# Altium schematic symbol library Schlib1.SchLib: 41 symbols
Pins are listed as number, name and electrical type; pins without a type are passive.

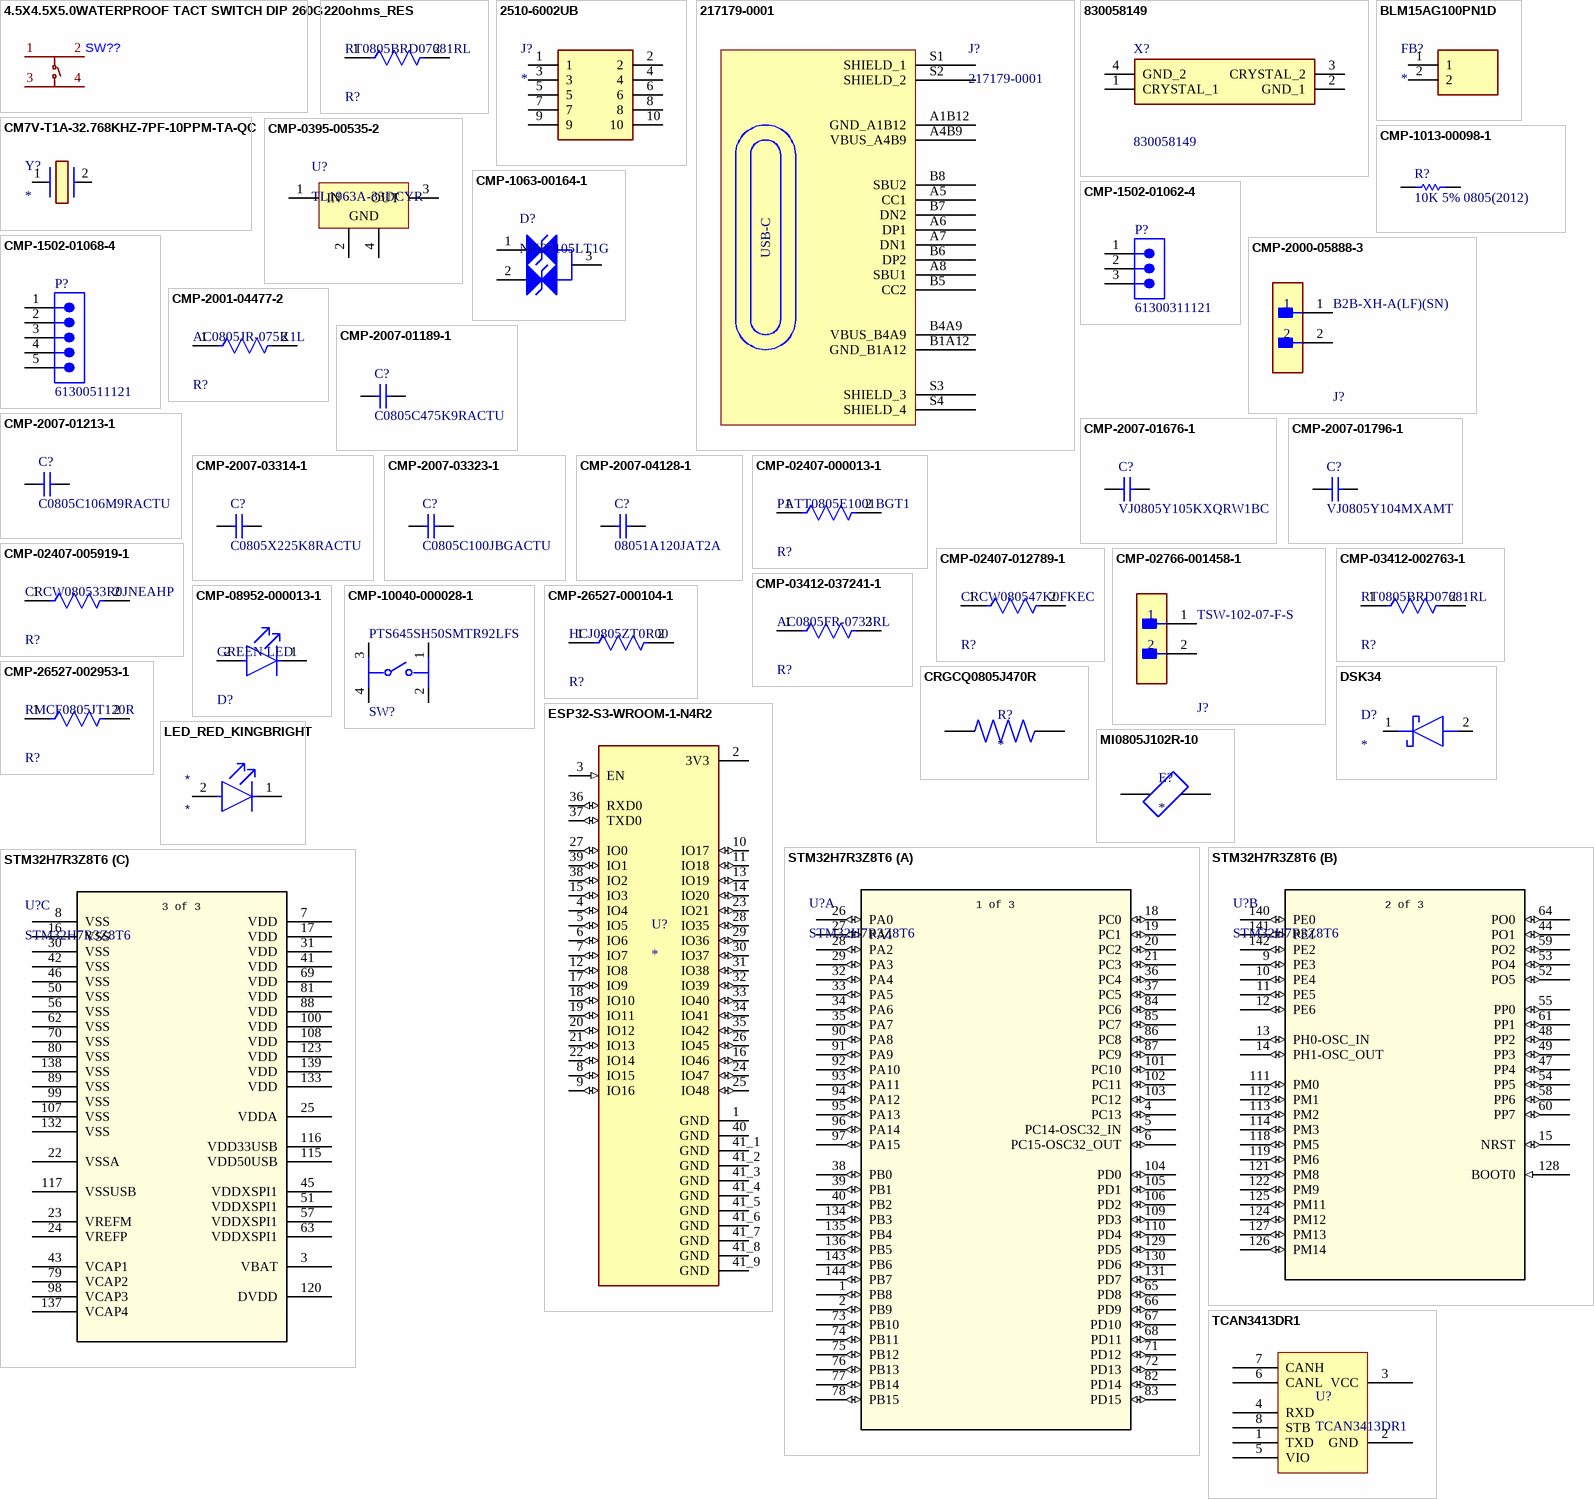
[diagram p0: symbols 4.5X4.5X5.0WATERPROOF TACT SWITCH DIP 260G to TCAN3413DR1]

## 4.5X4.5X5.0WATERPROOF TACT SWITCH DIP 260G
designator SW??
SMD Switch; LCSC Part Number: C39832249
footprint SW-TH_4P-L4.5-W4.5-P3.00-LS5.5 - duplicate
pins: 1 A, 2 B, 3 C, 4 D

## 220ohms_RES
designator R?, comment RT0805BRD07681RL
220Ω ±1% 125mW 0805 Thick Film Resistor; Manufacturer: Yageo; Temperature Coefficient: 25 ppm/°C; Power Rating: 0.125W; Voltage Rating: 150V; Tolerance: 0.0025; Value: 220Ω; ComponentLink2URL: http://www.yageo.com/documents/recent/PYu-RT_1-to-0.01_RoHS_L_9.pdf; Ipc Land Pattern Name: RESC200125X50; Footprint Url: http://www.yageo.com/exep/pages/download/literatures/PYu-R_Mount_10.pdf; Temperature: -55°C to +155°C; Resistance: 220Ω; Mouser Description: Thin Film Resistors - SMD 1/8W 681 ohm .1% 25ppm; Manufacturer Part Number: RT0805BRD07681RL; Temperature Range High: +155°C; Device Class L3: Chip SMD Resistors; Automotive: No; Octopart: https://octopart.com/rt0805brd07681rl-yageo-1270194; Device Class L1: Passive Components; Package: RT0805; Device Class L2: Resistors; Category: Res; RoHS: TRUE; Composition: Thin Film; ComponentLink2Description: Datasheet; Temperature Range Low: -55°C; Lead Free: Yes; Digikey Description: RES SMD 681 OHM 0.1% 1/8W 0805; Height: 0.6mm; Series: RT; LCSC Part Number: C17557
footprint FP-RT0805-IPC_B (Footprint not found)
pins: 1, 2

## 2510-6002UB
designator J?
10 Pin Connector; Manufacturer_Name: 3M; Manufacturer_Part_Number: 2510-6002UB; Datasheet Link: http://multimedia.3m.com/mws/media/330367O/3m-four-wall-header-2500-series-ts-0770.pdf; Height: 9.91mm; Mouser Part Number: 517-2510-6002; Mouser Price/Stock: https://www.mouser.co.uk/ProductDetail/3M-Electronic-Solutions-Division/2510-6002UB?qs=QGTbWukjY6o4fZyiqKm1IQ%3D%3D
footprint SHDR10W64P254_2X5_2002X859X991P
pins: 1, 2, 3, 4, 5, 6, 7, 8, 9, 10

## 217179-0001
designator J?
CONN RCP USB2.0 TYP C 24P SMD RA; Manufacturer: Molex; Supplier: Digikey; Supplier Part Number: 900-2171790001CT-ND; Manufacturer Part Number: 217179-0001; RoHS: No; Category: Connectors; Stock: 7228; Pricing: 1=0.9, 10=0.745, 100=0.6212 (USD); LCSC Part Number: C3197684
footprint FP-2171790001-MFG
pins: A1B12 GND_A1B12, A4B9 VBUS_A4B9, A5 CC1, A6 DP1, A7 DN1, A8 SBU1, B1A12 GND_B1A12, B4A9 VBUS_B4A9, B5 CC2, B6 DP2, B7 DN2, B8 SBU2, S1 SHIELD_1, S2 SHIELD_2, S3 SHIELD_3, S4 SHIELD_4
text: USB-C

## 830058149
designator X?
WE-XTAL Quartz Crystal CFPX-180; 3.2 x 2.5mm; 24.0 MHz; Tol = +/-10 ppm; Stab = +/-10 ppm Temp Range: -20 to 70 C; Load Cap = 10 pF;; Manufacturer_Name: Wurth Elektronik; Geometry.Height: 0.8mm; Manufacturer_Part_Number: 830058149; Mouser Part Number: 710-830058149; Mouser Price/Stock: https://www.mouser.co.uk/ProductDetail/Wurth-Elektronik/830058149?qs=2WXlatMagcGvGOKbd6jfgQ%3D%3D; Arrow Part Number: *; Arrow Price/Stock: *; Datasheet Link: https://www.we-online.com/catalog/datasheet/830058149.pdf
footprint 830058149-x1
pins: 1 CRYSTAL_1, 2 GND_1, 3 CRYSTAL_2, 4 GND_2

## BLM15AG100PN1D
designator FB?
Ferrite Bead; Manufacturer_Name: Murata Electronics; Manufacturer_Part_Number: BLM15AG100PN1D; Datasheet Link: http://www.murata.com/~/media/webrenewal/support/library/catalog/products/emc/emifil/c31e.ashx?la=en-gb; Height: 0.55mm; Mouser Part Number: 81-BLM15AG100PN1D; Mouser Price/Stock: https://www.mouser.co.uk/ProductDetail/Murata-Electronics/BLM15AG100PN1D?qs=pjaQvu26Swy5wAtJVZEYDQ%3D%3D; LCSC_Part Number: C369542
footprint NFZ15SG152SN10B
pins: 1, 2

## CM7V-T1A-32.768KHZ-7PF-10PPM-TA-QC
designator Y?
Crystal or Oscillator; Manufacturer_Name: Micro Crystal AG; Manufacturer_Part_Number: CM7V-T1A-32.768KHZ-7PF-10PPM-TA-QC; Datasheet Link: https://www.microcrystal.com/fileadmin/Media/Products/32kHz/Datasheet/CM7V-T1A.pdf; Height: 0.65mm; Mouser Part Number: 428-201563-MG01; Mouser Price/Stock: https://www.mouser.co.uk/ProductDetail/Micro-Crystal/CM7V-T1A-32.768kHz-7pF-10PPM-TA-QC?qs=7bTaA%2FLYtSYKx%2FblBI5vsQ%3D%3D; Arrow Part Number: CM7V-T1A-32.768KHZ-7PF-10PPM-TA-QC; Arrow Price/Stock: https://www.arrow.com/en/products/cm7v-t1a-32.768khz-7pf-10ppm-ta-qc/micro-crystal-ag?region=nac
footprint CM7V32768TBQA020
pins: 1, 2

## CMP-0395-00535-2
designator U?, comment TL1963A-33DCYR
Single Output Low Noise LDO, 1.5 A, Fixed 3.3 V Output, 2.1 to 20 V Input, 4-pin SOT-223 (DCY), -40 to 125 degC, Green (RoHS & no Sb/Br); Manufacturer: Texas Instruments; Vout Adj(Min)(V): 3.3; Vin(Max)(V): 20; SubFamily: Single Channel LDO; Iq(Typ)(mA): 1; Iout(Max)(A): 1.5; Vin(Min)(V): 2.1; Vdo(Typ)(mV): 340; Accuracy(%): 3; ComponentLink2Description: Datasheet; PackageVersion: 4202506/B; PackageReference: DCY0004A; ComponentLink1Description: Manufacturer URL; Eco-Plan: Green (RoHS & no Sb/Br); ComponentLink1URL: http://www.ti.com/; Fixed Output Options(V): 3.3; ComponentLink2URL: http://www.ti.com/general/docs/lit/getliterature.tsp?genericPartNumber=TL1963A-33&fileType=pdf; Vout Adj(Max)(V): 3.3; PackageDescription: 4-Pin Plastic Small Outline, Body 3.5 x 6.5 mm, Pitch 2.3 mm; ComponentLink3URL: http://www.ti.com/litv/pdf/mpds094a; DatasheetVersion: SLVS719F; PartNumber: TL1963A-33DCYR; Code_JEDEC: TO-261; Mounting Technology: Surface Mount; ComponentLink3Description: Package Specification; LCSC Part Number: C181262
footprint DCY0004A_L (SOT223, 4-Leads, Body 6.7x3.7mm, Pitch 2.3mm, IPC High Density)
pins: 1 IN (power) "Input. Power is supplied to the device through the IN pin. A bypass capacitor is required on this pin if the device is more than six inches away from the main input filter capacitor. In general, the output impedance of a (See Datasheet)", 2 GND (power) "Ground", 3 OUT (power) "Output. The output supplies power to the load. A minimum output capacitor (ceramic) of 10 uF is required to prevent oscillations. Larger output capacitors are required for applications with large transient loads to limit (See Datasheet)", 4 GND (power) "Ground"

## CMP-1013-00098-1
designator R?, comment 10K 5% 0805(2012)
10K 0.5W 5% 0805 (2012 Metric)  SMD; Case-EIA: 0805; Case-Metric: 2012; Value: 10000.00 Ohm; Power: 0.5W; Technology: SMT; Tolerance: 5 %; LCSC Part Number: C873759
footprint RESC0805(2012)_M (Chip Resistor, Body 2.0x1.3mm, IPC Low Density)
pins: 1, 2
1 alternate drawing of the same symbol

## CMP-1063-00164-1
designator D?, comment NUP2105LT1G
Dual Line CAN Bus Protector, 3-Pin SOT-23, Pb-Free, Tape and Reel; Manufacturer: On Semiconductor; IR Max (uA): 0.1; Number of Lines: 2; Direction: Bidirectional; C Max (pF): 30; PPK Max (W): 350; V(BR) Min (V): 26.2; ComponentLink3URL: http://www.onsemi.cn/pub_link/Collateral/318-08.PDF; Mounting Technology: Surface Mount; ComponentLink2Description: Datasheet; PartNumber: NUP2105LT1G; ComponentLink1URL: http://www.onsemi.com/; PackageVersion: Rev. AP, 11/2009; DatasheetVersion: Rev. 5; RoHS: Pb-Free; PackageReference: SOT-23-3-318-08; ComponentLink2URL: http://www.onsemi.cn/pub_link/Collateral/NUP2105L-D.PDF; ComponentLink1Description: Manufacturer URL; PackageDescription: 3-Pin Small Outline Transistor, Body 2.92 x 1.3 mm, Pitch 0.95 mm; Packing: Tape and Reel; ComponentLink3Description: Package Specification; LCSC Part Number: C19829391
footprint ONSC-SOT-23-3-318-08_V (SOT23, 3-Leads, Body 2.92x1.3mm, Pitch 0.95mm)
pins: 1 K, 2 K, 3 K

## CMP-1502-01062-4
designator P?, comment 61300311121
THT Vertical Pin Header WR-PHD, Pitch 2.54 mm, Single Row, 3 pins; Connector Type: Male Pin; Number of Contacts: 3; Operating Supply Voltage: 250V; Current Rating: 3A; Pitch: 2.54mm; Contact Resistance: 20mΩ; Gender: Male; Height: 8.94mm; Color: Black; Min Operating Temperature: -40°C; Max Operating Temperature: 105°C; Mount: Through Hole; Termination: Solder; Number of Rows: 1; Packaging: Bulk; Number of Pins: 3; Lead Pitch: 2.54mm; RoHS: Compliant; Contact Plating: Gold; Number of Positions: 3; Lead Free: Lead Free; Voltage Rating: 250V; Contact Mating Length: 5.9944mm; Orientation: Vertical; Contact Material: Gold; LCSC Part Number: C2937625
footprint 61300311121 (Pin Header, pitch 2.54 mm, THT, Vertical, single row, 3p)
pins: 1, 2, 3

## CMP-1502-01068-4
designator P?, comment 61300511121
THT Vertical Pin Header WR-PHD, Pitch 2.54 mm, Single Row, 5 pins; Number of Contacts: 5; Connector Type: Male Pin; Operating Supply Voltage: 250V; Contact Resistance: 20mΩ; Gender: Male; Pitch: 2.54mm; Current Rating: 3A; Min Operating Temperature: -40°C; Contact Material: Gold; Color: Black; RoHS: Compliant; Number of Rows: 1; Lead Free: Lead Free; Height: 8.89mm; Contact Plating: Gold; Number of Pins: 5; Orientation: Vertical; Voltage Rating: 250V; Packaging: Bulk; Number of Positions: 5; Max Operating Temperature: 105°C; Termination: Solder; Lead Pitch: 2.54mm; Contact Mating Length: 5.9944mm; Mount: Through Hole; LCSC Part Number: C42431835
footprint 61300511121 (Pin Header, pitch 2.54 mm, THT, Vertical, single row, 5p)
pins: 1, 2, 3, 4, 5

## CMP-2000-05888-3
designator J?, comment B2B-XH-A(LF)(SN)
CONN HEADER VERT 2POS 2.5MM; Current Rating: 3A; Voltage Rating: 250V; Number of Contacts: 2; Contact Resistance: 20mR; Wire/Cable Gauge: 22AWG; Insulation Resistance: 1GR; Connector Type: Male Pin; Packaging: Bulk; Contact Material: Brass; Lead Free: Lead Free; Orientation: Straight; Contact Plating: Tin; Max Current Rating: 3A; Termination: Solder; Fastening Type: Detent; Depth: 5.75mm; Housing Material: Polyamide; REACH SVHC: No SVHC; Series: XH; Voltage Rating (AC): 250V; Number of Positions: 2; Color: Natural; Contact Type: Male Pin; Max Voltage Rating (DC): 250V; Pitch: 2.5mm; Lead Pitch: 2.5mm; Mount: Through Hole; Max Operating Temperature: 85°C; Length: 7.4mm; Max Voltage Rating (AC): 250V; Min Operating Temperature: -25°C; Number of Rows: 1; Housing Color: White; LCSC Part Number: C19271386
footprint FP-B2B-XH-A_LF_SN-MFG
pins: 1, 2

## CMP-2001-04477-2
designator R?, comment AC0805JR-075K1L
RES SMD 5.1K OHM 5% 1/2W 0805; Manufacturer: Yageo; Automotive Grade: Grade 0; Value: 5.1KΩ; Voltage Rating: 150V; Power Rating: 1/8W; Tolerance: 0.05; Category: Res; RoHS: TRUE; Automotive: Yes; Device Class L1: Passive Components; Lead Free: Yes; Octopart: https://octopart.com/ac0805jr-075k1l-yageo-21711115; Series: AC; Temperature Range High: +155°C; ComponentLink2URL: http://www.yageo.com/documents/recent/PYu-AC_51_RoHS_L_6.pdf; Temperature Range Low: -55°C; ComponentLink2Description: Datasheet; Footprint Url: http://www.yageo.com/exep/pages/download/literatures/PYu-R_Mount_10.pdf; Mouser Description: Thick Film Resistors - SMD 5.1K ohm 5% 1/8W; Device Class L3: Chip SMD Resistors; Digikey Description: RES SMD 5.1K OHM 5% 1/8W 0805; Package: AC0805; Temperature: -55°C to +155°C; Device Class L2: Resistors; Resistance: 5.1KΩ; Height: 0.6mm; Manufacturer Part Number: AC0805JR-075K1L; Ipc Land Pattern Name: RESC200125X50; Composition: Thick Film; LCSC Part Number: C543469
footprint FP-AC0805-IPC_B
pins: 1, 2

## CMP-2007-01189-1
designator C?, comment C0805C475K9RACTU
4.7uF; Manufacturer: Kemet; Part Number: C0805C475K9RACTU; LCSC Part Number: C354262
footprint CAPC2013X145X50ML20T25 (Chip Capacitor, 2-Leads, Body 2.00x1.25mm, IPC Low Density)
pins: 1, 2
1 alternate drawing of the same symbol

## CMP-2007-01213-1
designator C?, comment C0805C106M9RACTU
10uF; Manufacturer: Kemet; Part Number: C0805C106M9RACTU; LCSC Part Number: C15850
footprint CAPC2013X145X50ML20T25 (Chip Capacitor, 2-Leads, Body 2.00x1.25mm, IPC Low Density)
pins: 1, 2
1 alternate drawing of the same symbol

## CMP-2007-01676-1
designator C?, comment VJ0805Y105KXQRW1BC
1uF; Manufacturer: Vitramon; Part Number: VJ0805Y105KXQRW1BC; LCSC Part Number: C91186
footprint CAPC2013X145X50ML20T20 (Chip Capacitor, 2-Leads, Body 2.00x1.25mm, IPC Low Density)
pins: 1, 2
1 alternate drawing of the same symbol

## CMP-2007-01796-1
designator C?, comment VJ0805Y104MXAMT
0.1uF; Manufacturer: Vitramon; Part Number: VJ0805Y104MXAMT; LCSC Part Number: C519981
footprint CAPC2013X145X48ML20T23 (Chip Capacitor, 2-Leads, Body 2.00x1.25mm, IPC Low Density)
pins: 1, 2
1 alternate drawing of the same symbol

## CMP-2007-03314-1
designator C?, comment C0805X225K8RACTU
2.2uF; Manufacturer: Kemet; Part Number: C0805X225K8RACTU; LCSC Part Number: C19110
footprint CAPC2013X140X50ML20T25 (Chip Capacitor, 2-Leads, Body 2.00x1.25mm, IPC Low Density)
pins: 1, 2
1 alternate drawing of the same symbol

## CMP-2007-03323-1
designator C?, comment C0805C100JBGACTU
10pF; Manufacturer: Kemet; Part Number: C0805C100JBGACTU; LCSC Part Number: C53084483
footprint CAPC1608X92X38NL15T08 (Chip Capacitor, 2-Leads, Body 1.60x0.80mm, IPC Medium Density)
pins: 1, 2
1 alternate drawing of the same symbol

## CMP-2007-04128-1
designator C?, comment 08051A120JAT2A
7pF; Manufacturer: AVX Interconnect / Elco; Part Number: 08051A120JAT2A; LCSC Part Number: C136031
footprint CAPC1608X92X38NL15T08 (Chip Capacitor, 2-Leads, Body 1.60x0.80mm, IPC Medium Density)
pins: 1, 2
1 alternate drawing of the same symbol

## CMP-02407-000013-1
designator R?, comment PATT0805E1001BGT1
RES SMD 1K OHM 0.1% 1/5W 0805; Manufacturer: Vishay; Automotive Grade: Grade 0; Resistance: 1kΩ; Voltage Rating: 100V; Temperature Coefficient: 25ppm/°C; Value: 1kΩ; Power Rating: 200mW; ComponentLink2Description: Datasheet; Device Class L1: Passive Components; Footprint Url: https://www.vishay.com/docs/60119/landpatterns.pdf; Lead Free: Yes; Device Class L2: Resistors; Tolerance: 0.1%; Manufacturer Part Number: PATT0805E1001BGT1; Temperature: -55°C to +250°C; Height: 0.018inch; Series: PATT; Device Class L3: Chip SMD Resistors; Temperature Range High: +250°C; RoHS: TRUE; Octopart: https://octopart.com/patt0805e1001bgt1-vishay-34963130; Category: Res; Digikey Description: RES SMD 1K OHM 0.1% 1/5W 0805; Automotive: Yes; Package: PATT0805; ComponentLink2URL: https://www.vishay.com/docs/60124/patt.pdf; Temperature Range Low: -55°C; Composition: Thin Film; Ipc Land Pattern Name: RESC203127X38; LCSC Part Number: C560481
footprint FP-PATT0805-IPC_B
pins: 1, 2

## CMP-02407-005919-1
designator R?, comment CRCW080533R0JNEAHP
RES Thick Film, 33Ω, 5%, 0.5W, 200ppm/°C, 0805; Resistance: 33R; Max Power Dissipation: 500mW; Packaging: Tape and Reel; Package Quantity: 5000; Lead Free: Lead Free; Tolerance: 5%; Temperature Coefficient: 200ppm/°C; Features: Automotive AEC-Q200; Composition: Thick Film; Case/Package: 0805; Height: 0.024inch; Number of Terminations: 2; Length: 0.079inch; Min Operating Temperature: -55°C; Width: 0.049inch; Max Operating Temperature: 155°C; LCSC Part Number: C441971
footprint FP-CRCW0805-HPe3-IPC_B
pins: 1, 2

## CMP-02407-012789-1
designator R?, comment CRCW080547K0FKEC
RES Thick Film, 47kΩ, 1%, 0.5W, 100ppm/°C, 0805; Resistance: 47kR; Max Power Dissipation: 500mW; Length: 0.079inch; Number of Terminations: 2; Features: Automotive AEC-Q200; Case/Package: 0805; Temperature Coefficient: 100ppm/°C; Height: 0.02inch; Lead Free: Lead Free; Series: CRCW; Packaging: Tape and Reel; Tolerance: 1%; Resistor Type: Thick Film; Min Operating Temperature: -55°C; Width: 0.049inch; RoHS Compliant: Yes; Max Operating Temperature: 155°C; Depth: 1.25mm; Military Standard: Not; Package Quantity: 20000; LCSC Part Number: C441957
footprint FP-CRCW0805-e3-IPC_B
pins: 1, 2

## CMP-02766-001458-1
designator J?, comment TSW-102-07-F-S
CONN HEADER VERT 2POS 2.54MM; Gender: Male; Max Current Rating: 7.6A; Number of Contacts: 2; Max Voltage Rating (AC): 550V; Orientation: Straight; Depth: 2.54mm; Series: TSW; Package Quantity: 1; Min Operating Temperature: -55°C; Max Operating Temperature: 125°C; Contact Type: Male Pin; Contact Shape: Square; Color: Black; Housing Color: Black; Connector Type: Header; Fastening Type: Pull; Radiation Hardening: No; Pitch: 2.54mm; Housing Material: Polyester; Mount: Through Hole; Number of Positions: 2; Number of Rows: 1; Contact Material: Bronze; Insulation Color: Black; Contact Finish - Mating: GOLD; Termination: Solder; Insulation Material: PBT; Length: 5.08mm; Flammability Rating: UL94 V-0; Contact Mating Length: 0.23inch; REACH SVHC: No SVHC; Contact Plating: Gold; RoHS Compliant: Yes; Packaging: Bulk; LCSC Part Number: C492401
footprint FP-TSW-102-07-F-S-MFG
pins: 1, 2

## CMP-03412-002763-1
designator R?, comment RT0805BRD07681RL
180Ω ±1% 125mW 0805 Thick Film Resistor; Manufacturer: Yageo; Temperature Coefficient: 25 ppm/°C; Power Rating: 0.125W; Voltage Rating: 150V; Tolerance: 0.0025; Value: 180Ω; ComponentLink2URL: http://www.yageo.com/documents/recent/PYu-RT_1-to-0.01_RoHS_L_9.pdf; Ipc Land Pattern Name: RESC200125X50; Footprint Url: http://www.yageo.com/exep/pages/download/literatures/PYu-R_Mount_10.pdf; Temperature: -55°C to +155°C; Resistance: 180Ω; Mouser Description: Thin Film Resistors - SMD 1/8W 681 ohm .1% 25ppm; Manufacturer Part Number: RT0805BRD07681RL; Temperature Range High: +155°C; Device Class L3: Chip SMD Resistors; Automotive: No; Octopart: https://octopart.com/rt0805brd07681rl-yageo-1270194; Device Class L1: Passive Components; Package: RT0805; Device Class L2: Resistors; Category: Res; RoHS: TRUE; Composition: Thin Film; ComponentLink2Description: Datasheet; Temperature Range Low: -55°C; Lead Free: Yes; Digikey Description: RES SMD 681 OHM 0.1% 1/8W 0805; Height: 0.6mm; Series: RT; LCSC Part Number: C2933344
footprint FP-AC0805-IPC_B
pins: 1, 2

## CMP-03412-037241-1
designator R?, comment AC0805FR-0733RL
RES SMD 33 OHM 1% 1/8W 0805; Manufacturer: Yageo; Automotive Grade: Grade 0; Value: 33Ω; Voltage Rating: 150V; Tolerance: 0.01; Octopart: https://octopart.com/ac0805fr-0733rl-yageo-46503501; Device Class L2: Resistors; Temperature: -55°C to +155°C; Composition: Thick Film; ComponentLink2URL: http://www.yageo.com/documents/recent/PYu-AC_51_RoHS_L_6.pdf; Automotive: Yes; Lead Free: Yes; Category: Res; Package: AC0805; Temperature Range Low: -55°C; Device Class L3: Chip SMD Resistors; Temperature Range High: +155°C; Mouser Description: Thick Film Resistors - SMD 1/8W 33ohm 1% AEC-Q200; Footprint Url: http://www.yageo.com/exep/pages/download/literatures/PYu-R_Mount_10.pdf; Resistance: 33Ω; Power Rating: 1/8W; RoHS: TRUE; ComponentLink2Description: Datasheet; Device Class L1: Passive Components; Height: 0.6mm; Series: AC; Digikey Description: RES SMD 33 OHM 1% 1/8W 0805; Ipc Land Pattern Name: RESC200125X50; Manufacturer Part Number: AC0805FR-0733RL; LCSC Part Number: C228754
footprint FP-AC0805-IPC_B
pins: 1, 2

## CMP-08952-000013-1
designator D?, comment GREEN LED
LED GREEN CLEAR 0805 SMD; Manufacturer Part Number: SML-210MTT86; Manufacturer: ROHM; Forward Current: 20mA; Reverse Voltage: 4V; Peak Emmision Wavelength: 573nm; Forward Voltage: 2.2V; Luminous Intensity: 16mcd; Power Dissipation: 70mW; Led Orientation: Top View; Wavelength: 570nm; Device Class L2: LEDs; Colour: Green; Height: 0.90mm; Ipc Land Pattern Name: DIOCP200125X25; Automotive: No; Temperature Range High: +85°C; Device Class L3: unset; Temperature: -30°C to +85°C; Device Class L1: Optoelectronics; Mouser Description: Standard LEDs - SMD GREEN SMD TRANS LENS; Temperature Range Low: -30°C; Package: SML-210; Digikey Description: LED GREEN CLEAR 0805 SMD; Lead Free: Yes; ComponentLink2URL: https://www.mouser.in/ds/2/348/sml-21-313092.pdf; ComponentLink2Description: Datasheet; Octopart: https://octopart.com/sml-210mtt86-rohm-550711; RoHS: TRUE; Category: Diode; LCSC Part Number: C919444
footprint FP-SML-210-MFG (LED GREEN CLEAR 2012 SMD)
pins: 1 C, 2 A

## CMP-10040-000028-1
designator SW?, comment PTS645SH50SMTR92LFS
SWITCH TACTILE SPST-NO 0.05A 12V; Operating Force: 200gf; Current Rating: 50mA; Illumination Type: Non-Illuminated; Actuator Material: Nylon; Throw Configuration: SPST; Switch Function: Off-Mom; Mechanical Life: 100000Cycles; Actuator Type: Standard; Packaging: Tape and Reel; Termination: Gull Wing; Max Operating Temperature: 60°C; Length: 6mm; REACH SVHC: No SVHC; Orientation: Straight; Max Voltage Rating (DC): 12V; Package Quantity: 1000; Max Current Rating: 50mA; Mount: Surface Mount; Contact Material: Bronze; Case/Package: SMD/SMT; Lead Free: Lead Free; Min Operating Temperature: -20°C; Contact Plating: Silver; Color: Black; Depth: 9mm; Voltage Rating (DC): 12V; LCSC Part Number: C221869
footprint FP-PTS645SH50SMTR92LFS-MFG
pins: 1, 2, 3, 4

## CMP-26527-000104-1
designator R?, comment HCJ0805ZT0R00
RES 0 OHM JUMPER 1/2W 0805; Resistance: 0mR; Radiation Hardening: No; Case Code (Imperial): 0805; Number of Terminations: 2; Lead Free: Lead Free; Max Operating Temperature: 155°C; Width: 0.049inch; Case Code (Metric): 2012; Height: 0.026inch; Mount: Surface Mount; Min Operating Temperature: -55°C; Packaging: Tape and Reel; Package Quantity: 1; Termination: Wraparound; Length: 0.079inch; RoHS Compliant: Yes; Case/Package: 0805; LCSC Part Number: C844811
footprint FP-HCJ0805-IPC_B
pins: 1, 2

## CMP-26527-002953-1
designator R?, comment RMCF0805JT120R
120Ω ±5% 0.5W 0805 Thick Film Chip Resistor AEC-Q200 compliant; Temperature Coefficient: 200ppm/°C; Resistance: 120R; Max Power Dissipation: 125mW; Resistor Type: Thick Film; Construction: Rectangular; Packaging: Tape and Reel; Height: 0.026inch; Max Operating Temperature: 155°C; RoHS Compliant: Yes; Tolerance: 5%; Case/Package: 0805; Width: 0.049inch; Radiation Hardening: No; Contact Plating: Tin; Depth: 1.25mm; Number of Terminations: 2; Military Standard: Not; Mount: Surface Mount; Case Code (Imperial): 0805; Length: 0.079inch; Series: RMCF; Case Code (Metric): 2012; Min Operating Temperature: -55°C; Lead Free: Lead Free; Features: Automotive AEC-Q200; LCSC Part Number: C844392
footprint FP-RMCF0805-IPC_B
pins: 1, 2

## CRGCQ0805J470R
designator R?
Fixed Resistor CRGCQ 0805 470R 5%; MF: TE Connectivity; MP: CRGCQ0805J470R; SnapEDA_Link: https://www.snapeda.com/parts/CRGCQ0805J470R/TE+Connectivity/view-part/?ref=snap; Package: 2012 TE Connectivity; Value: *; Check_prices: https://www.snapeda.com/parts/CRGCQ0805J470R/TE+Connectivity/view-part/?ref=eda; LCSC Part Number: C114564
footprint RESC2012X65N
pins: 1, 2

## DSK34
designator D?
Schottky Diode; Manufacturer_Name: Micro Diode; Manufacturer_Part_Number: DSK34; Datasheet Link: https://atlas.eefcdn.com/partdatasheet/700274/DSK32-THRU-DSK320-SOD-123FL.pdf; Height: 1.3mm; LCSC Part Number: C41371066
footprint SODFL3818X130N
pins: 1 K, 2 A

## ESP32-S3-WROOM-1-N4R2
designator U?
Bluetooth, WiFi 802.11b/g/n, Bluetooth v5.0 Transceiver Module 2.4GHz PCB Trace Surface Mount; MF: Espressif Systems; MP: ESP32-S3-WROOM-1-N4R2; Package: None; Purchase-URL: https://pricing.snapeda.com/search/part/ESP32-S3-WROOM-1-N4R2/?ref=eda; Price: None; Availability: In Stock; Check_prices: https://www.snapeda.com/parts/ESP32-S3-WROOM-1-N4R2/Espressif+Systems/view-part/?ref=eda; SnapEDA_Link: https://www.snapeda.com/parts/ESP32-S3-WROOM-1-N4R2/Espressif+Systems/view-part/?ref=snap; Value: *; LCSC Part Number: C2913203
footprint XCVR_ESP32-S3-WROOM-1-N4R2
pins: 1 GND (power), 2 3V3 (power), 3 EN (in), 4 IO4 (io), 5 IO5 (io), 6 IO6 (io), 7 IO7 (io), 8 IO15 (io), 9 IO16 (io), 10 IO17 (io), 11 IO18 (io), 12 IO8 (io), 13 IO19 (io), 14 IO20 (io), 15 IO3 (io), 16 IO46 (io), 17 IO9 (io), 18 IO10 (io), 19 IO11 (io), 20 IO12 (io), 21 IO13 (io), 22 IO14 (io), 23 IO21 (io), 24 IO47 (io), 25 IO48 (io), 26 IO45 (io), 27 IO0 (io), 28 IO35 (io), 29 IO36 (io), 30 IO37 (io), 31 IO38 (io), 32 IO39 (io), 33 IO40 (io), 34 IO41 (io), 35 IO42 (io), 36 RXD0 (io), 37 TXD0 (io), 38 IO2 (io), 39 IO1 (io), 40 GND (power), 41_1 GND (power), 41_2 GND (power), 41_3 GND (power), 41_4 GND (power), 41_5 GND (power), 41_6 GND (power), 41_7 GND (power), 41_8 GND (power), 41_9 GND (power)

## LED_RED_KINGBRIGHT
designator *
RED LED; Manufacturer: KINGBRIGHT; Forward Current: 20 mA; Voltage - Forward(Vf): 2.5V; LCSC Part Number: C598272
footprint LED_APHCM2012SURCK-F01
pins: 1 C, 2 A

## MI0805J102R-10
designator E?
EMI Ferrite Chip Bead, 0805, 1000MA, 1000 Ohms @100MHz, DCR Max 0.150Ohm | Laird Performance Materials MI0805J102R-10; MF: Laird-Signal Integrity Products; SnapEDA_Link: https://www.snapeda.com/parts/MI0805J102R-10/Laird-Signal+Integrity+Products/view-part/?ref=snap; Package: 0805 Laird; Value: *; MP: MI0805J102R-10; Check_prices: https://www.snapeda.com/parts/MI0805J102R-10/Laird-Signal+Integrity+Products/view-part/?ref=eda; LCSC Part Number: C85835
footprint FB_MI0805J102R-10
pins: 1, 2

## STM32H7R3Z8T6
designator U?
High-Performance Arm Cortex-M7 MCU, 600MHz, 64KB Bootflash, 620KB SRAM, with DSP, cache, USB HS PHY; Manufacturer_Name: STMicroelectronics; Copyright: Copyright (C) 2025 Ultra Librarian. All rights reserved.; Manufacturer_Part_Number: STM32H7R3Z8T6; RefDes: RefDes; Type: Type; LCSC Part Number: C26125147
footprint LQFP-144_STM-M
part A pins: 1 PB8 (io), 2 PB9 (io), 4 PC13 (io), 5 PC14-OSC32_IN (io), 6 PC15-OSC32_OUT (io), 18 PC0 (io), 19 PC1 (io), 20 PC2 (io), 21 PC3 (io), 26 PA0 (io), 27 PA1 (io), 28 PA2 (io), 29 PA3 (io), 32 PA4 (io), 33 PA5 (io), 34 PA6 (io), 35 PA7 (io), 36 PC4 (io), 37 PC5 (io), 38 PB0 (io), 39 PB1 (io), 40 PB2 (io), 65 PD8 (io), 66 PD9 (io), 67 PD10 (io), 68 PD11 (io), 71 PD12 (io), 72 PD13 (io), 73 PB10 (io), 74 PB11 (io), 75 PB12 (io), 76 PB13 (io), 77 PB14 (io), 78 PB15 (io), 82 PD14 (io), 83 PD15 (io), 84 PC6 (io), 85 PC7 (io), 86 PC8 (io), 87 PC9 (io), 90 PA8 (io), 91 PA9 (io), 92 PA10 (io), 93 PA11 (io), 94 PA12 (io), 95 PA13 (io), 96 PA14 (io), 97 PA15 (io), 101 PC10 (io), 102 PC11 (io), 103 PC12 (io), 104 PD0 (io), 105 PD1 (io), 106 PD2 (io), 109 PD3 (io), 110 PD4 (io), 129 PD5 (io), 130 PD6 (io), 131 PD7 (io), 134 PB3 (io), 135 PB4 (io), 136 PB5 (io), 143 PB6 (io), 144 PB7 (io)
part B pins: 9 PE3 (io), 10 PE4 (io), 11 PE5 (io), 12 PE6 (io), 13 PH0-OSC_IN (io), 14 PH1-OSC_OUT (io), 15 NRST (io), 44 PO1 (io), 47 PP4 (io), 48 PP2 (io), 49 PP3 (io), 52 PO5 (io), 53 PO4 (io), 54 PP5 (io), 55 PP0 (io), 58 PP6 (io), 59 PO2 (io), 60 PP7 (io), 61 PP1 (io), 64 PO0 (io), 111 PM0 (io), 112 PM1 (io), 113 PM2 (io), 114 PM3 (io), 118 PM5 (io), 119 PM6 (io), 121 PM8 (io), 122 PM9 (io), 124 PM12 (io), 125 PM11 (io), 126 PM14 (io), 127 PM13 (io), 128 BOOT0 (in), 140 PE0 (io), 141 PE1 (io), 142 PE2 (io)
part C pins: 3 VBAT (power), 7 VDD (power), 8 VSS (power), 16 VSS (power), 17 VDD (power), 22 VSSA (power), 23 VREFM (power), 24 VREFP (power), 25 VDDA (power), 30 VSS (power), 31 VDD (power), 41 VDD (power), 42 VSS (power), 43 VCAP1 (power), 45 VDDXSPI1 (power), 46 VSS (power), 50 VSS (power), 51 VDDXSPI1 (power), 56 VSS (power), 57 VDDXSPI1 (power), 62 VSS (power), 63 VDDXSPI1 (power), 69 VDD (power), 70 VSS (power), 79 VCAP2 (power), 80 VSS (power), 81 VDD (power), 88 VDD (power), 89 VSS (power), 98 VCAP3 (power), 99 VSS (power), 100 VDD (power), 107 VSS (power), 108 VDD (power), 115 VDD50USB (power), 116 VDD33USB (power), 117 VSSUSB (power), 120 DVDD (power), 123 VDD (power), 132 VSS (power), 133 VDD (power), 137 VCAP4 (power), 138 VSS (power), 139 VDD (power)
part A text: 1 of 3
part B text: 2 of 3
part C text: 3 of 3

## TCAN3413DR1
designator U?
CAN Transciever; LCSC Part Number: C22396693
footprint TCAN3413DR1
pins: 1 TXD, 2 GND, 3 VCC, 4 RXD, 5 VIO, 6 CANL, 7 CANH, 8 STB

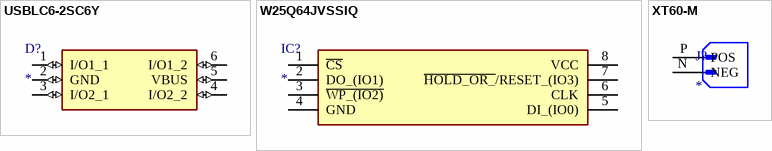
[diagram p1: symbols USBLC6-2SC6Y to XT60-M]

## USBLC6-2SC6Y
designator D?
17V Clamp 5A (8/20µs) Ipp Tvs Diode Surface Mount SOT-23-6; MF: STMicroelectronics; MP: USBLC6-2SC6Y; SnapEDA_Link: https://www.snapeda.com/parts/USBLC6-2SC6Y/STMicroelectronics/view-part/?ref=snap; Package: SOT-23-6 STMicroelectronics; Value: *; Check_prices: https://www.snapeda.com/parts/USBLC6-2SC6Y/STMicroelectronics/view-part/?ref=eda; LCSC Part Number: C7519
footprint SOT95P280X145-6N
pins: 1 I/O1_1 (io), 2 GND (io), 3 I/O2_1 (io), 4 I/O2_2 (io), 5 VBUS (io), 6 I/O1_2 (io)

## W25Q64JVSSIQ
designator IC?
Integrated Circuit; Manufacturer_Name: Winbond; Manufacturer_Part_Number: W25Q64JVSSIQ; Datasheet Link: https://www.winbond.com/hq/search-resource-file.jsp?partNo=W25Q64JVSSIQ&type=datasheet; Height: 2.16mm; Mouser Part Number: 454-W25Q64JVSSIQ; Mouser Price/Stock: https://www.mouser.co.uk/ProductDetail/Winbond/W25Q64JVSSIQ?qs=qSfuJ%252Bfl%2Fd4DecxlHDmB8w%3D%3D; Arrow Part Number: W25Q64JVSSIQ; Arrow Price/Stock: https://www.arrow.com/en/products/w25q64jvssiq/winbond-electronics.html?utm_currency=USD&region=nac; LCSC Part Number: C83140
footprint SOIC127P790X216-8N
pins: 1 ~{CS}, 2 DO_(IO1), 3 ~{WP_(IO2)}, 4 GND, 5 DI_(IO0), 6 CLK, 7 ~{HOLD_OR_}/RESET_(IO3), 8 VCC

## XT60-M
designator J?
Plug; DC supply; XT60; male; PIN: 2; for cable; soldered; 30A; 500V; MF: AMASS; MP: XT60-M; SnapEDA_Link: https://www.snapeda.com/parts/XT60-M/AMASS/view-part/?ref=snap; Package: Package; Value: *; Check_prices: https://www.snapeda.com/parts/XT60-M/AMASS/view-part/?ref=eda; LCSC Part Number: C98733
footprint AMASS_XT60-M
pins: N NEG, P POS